# EAGLE library part DIP_SWITCH_8_POS (library open-ephys)
8-channel DIP switch
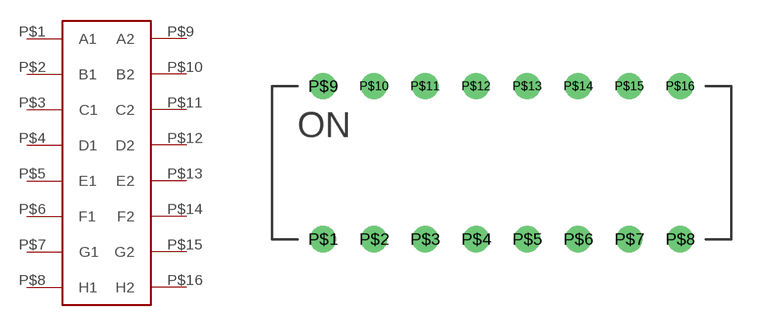
[diagram p2: symbol with the pads of DIP_SWITCH_8_POS; footprint DIP_SWITCH_8_POS]

Designator prefix -

## DIP_SWITCH_8_POS  [DIP_SWITCH_8_POS]
P$1  A1
P$2  B1
P$3  C1
P$4  D1
P$5  E1
P$6  F1
P$7  G1
P$8  H1
P$9  A2
P$10  B2
P$11  C2
P$12  D2
P$13  E2
P$14  F2
P$15  G2
P$16  H2

## Footprint DIP_SWITCH_8_POS (pad centres in mm)
drill 0.8: P$1 0,0; P$2 2.54,0; P$3 5.08,0; P$4 7.62,0; P$5 10.16,0; P$6 12.7,0; P$7 15.24,0; P$8 17.78,0; P$9 0,7.62; P$10 2.54,7.62; P$11 5.08,7.62; P$12 7.62,7.62; P$13 10.16,7.62; P$14 12.7,7.62; P$15 15.24,7.62; P$16 17.78,7.62